# Altium footprint library TVS Diode.PcbLib: 1 footprints
Each footprint in its own frame and in the unit in brackets; x right, y up, seen from the top. Pads: shape width x height; smd on the part's side, far side on the other; paste and mask are expansions set on the pad; w line width, h text height; cw(c..) or ccw(c..) is an arc to the next point about the centre after c.
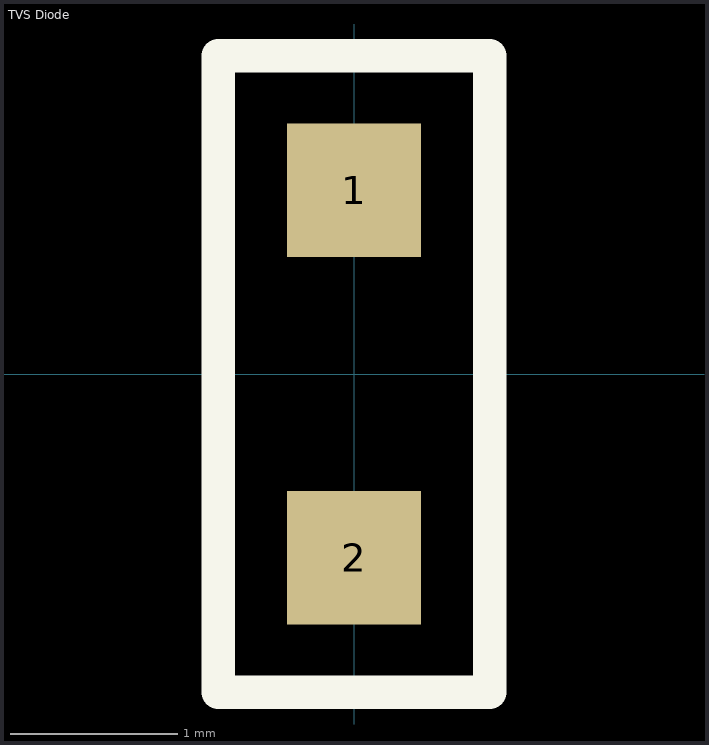
[diagram p0: the footprint, top view; thin cyan lines are the x and y axes]

## TVS Diode [mm] "Digikey: CDSOD323-T03SCCT-ND MFG:    CDSOD323-T03SC"
pads (2):
  rect 0.8x0.8 smd: 1(0,1.1) 2(0,-1.1)
Top Overlay:
  lines w0.2: -0.813,-1.905 -0.813,1.905 0.813,1.905 0.813,-1.905 -0.813,-1.905
3D body "cdsod323-t03SC.stp": height 1.04, standoff 0.03, extent -0.65,-1.273 0.65,1.273